# EAGLE library part S2L3.50/8/90G (library strasys_standard)
OMNIMATE S2L3.50/8/90G Fa. Weidmüller
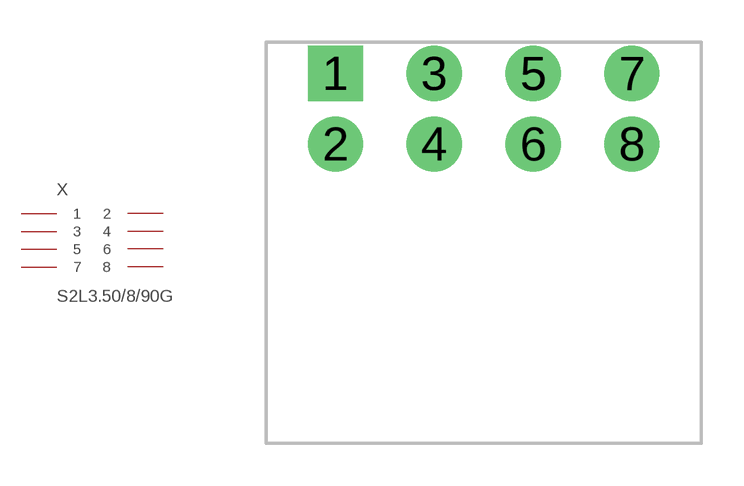
[diagram p13: symbol with the pads of S2L-90G-8; footprint S2L-90G-8]

Designator prefix X

## S2L3.50/8/90G (SUPPLIER: Weidmüller)  [S2L-90G-8]
1  1
2  2
3  3
4  4
5  5
6  6
7  7
8  8

## Footprint S2L-90G-8 (pad centres in mm)
drill 1.3 square: 1 0,0
drill 1.3: 2 0,-2.5; 3 3.5,0; 4 3.5,-2.5; 5 7,0; 6 7,-2.5; 7 10.5,0; 8 10.5,-2.5